# Altium footprint library ECS8FMX035TR.PcbLib: 1 footprints
Each footprint in its own frame and in the unit in brackets; x right, y up, seen from the top. Pads: shape width x height; smd on the part's side, far side on the other; paste and mask are expansions set on the pad; w line width, h text height; cw(c..) or ccw(c..) is an arc to the next point about the centre after c.
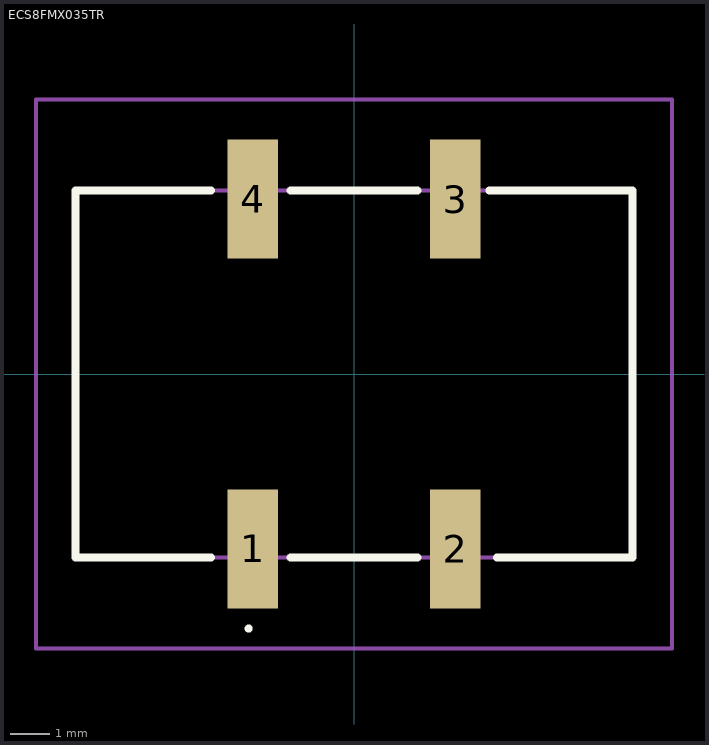
[diagram p0: the footprint, top view; thin cyan lines are the x and y axes]

## ECS8FMX035TR [mm]
pads (4):
  rect 1.27x3 smd: 1(-2.54,-4.4) 2(2.54,-4.4) 3(2.54,4.4) 4(-2.54,4.4)
Top Overlay:
  lines w0.1: -2.7,-6.4 cw(c-2.65,-6.4) -2.6,-6.4 ; -2.7,-6.4 -2.7,-6.4 ; -2.7,-6.4 ccw(c-2.65,-6.4) -2.6,-6.4 ; -2.6,-6.4 -2.6,-6.4
  lines w0.2: -3.6,-4.612 -7,-4.612 -7,4.612 -3.6,4.612 ; -1.6,-4.612 1.6,-4.612 ; -1.6,4.612 1.6,4.612 ; 3.4,4.612 7,4.612 7,-4.612 3.6,-4.612
Mechanical 15:
  lines w0.1: -7,-4.612 7,-4.612 7,4.612 -7,4.612 -7,-4.612
Mechanical 20:
  lines w0.1: -8,-6.9 8,-6.9 8,6.9 -8,6.9 -8,-6.9